# Altium integrated library ABC Integrated Library.IntLib: 3 symbols
Pins are listed as number, name and electrical type; pins without a type are passive.

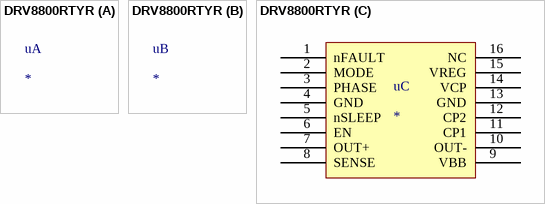
[diagram p0: symbol DRV8800RTYR]

## DRV8800RTYR
designator u
footprint DRV8800RTYR
part C pins: 1 nFAULT, 2 MODE, 3 PHASE, 4 GND, 5 nSLEEP, 6 EN, 7 OUT+ (power), 8 SENSE, 9 VBB (power), 10 OUT- (power), 11 CP1, 12 CP2, 13 GND, 14 VCP, 15 VREG, 16 NC


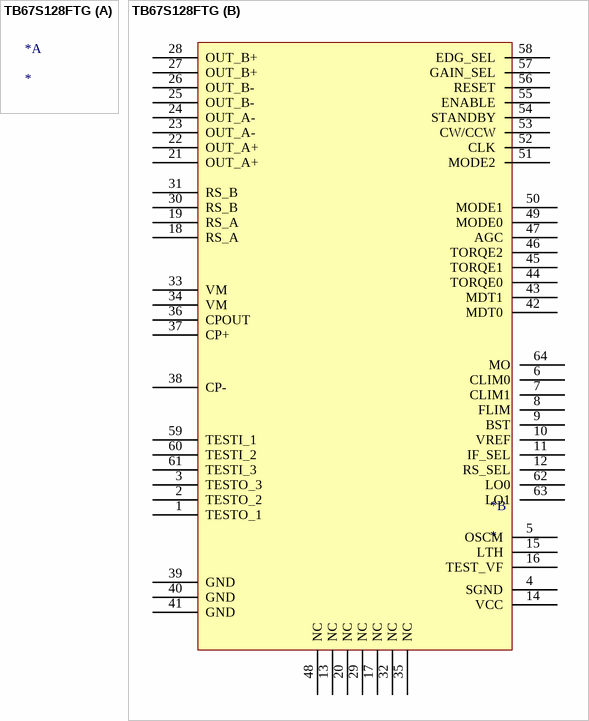
[diagram p1: symbol TB67S128FTG]

## TB67S128FTG
designator *
footprint TB67S128FTG FP
part B pins: 1 TESTO_1, 2 TESTO_2, 3 TESTO_3, 4 SGND, 5 OSCM, 6 CLIM0, 7 CLIM1, 8 FLIM, 9 BST, 10 VREF, 11 IF_SEL, 12 RS_SEL, 13 NC, 14 VCC, 15 LTH, 16 TEST_VF, 17 NC, 18 RS_A, 19 RS_A, 20 NC, 21 OUT_A+, 22 OUT_A+, 23 OUT_A-, 24 OUT_A-, 25 OUT_B-, 26 OUT_B-, 27 OUT_B+, 28 OUT_B+, 29 NC, 30 RS_B, 31 RS_B, 32 NC, 33 VM, 34 VM, 35 NC, 36 CPOUT, 37 CP+, 38 CP-, 39 GND, 40 GND, 41 GND, 42 MDT0, 43 MDT1, 44 TORQE0, 45 TORQE1, 46 TORQE2, 47 AGC, 48 NC, 49 MODE0, 50 MODE1, 51 MODE2, 52 CLK, 53 CW/CCW, 54 STANDBY, 55 ENABLE, 56 RESET, 57 GAIN_SEL, 58 EDG_SEL, 59 TESTI_1, 60 TESTI_2, 61 TESTI_3, 62 LO0, 63 LO1, 64 MO


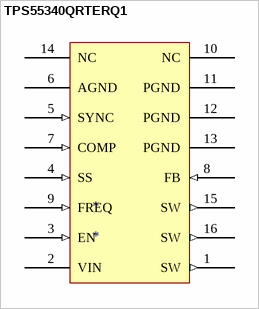
[diagram p2: symbol TPS55340QRTERQ1]

## TPS55340QRTERQ1
designator *
footprint TPS55340QRTERQ1 (Boost Switching Regulator IC Positive, Isolation Capable Adjustable 2.9V 1 Output 5.25A (Switch) 16-WFQFN Exposed Pad)
pins: 1 SW (out), 2 VIN (power), 3 EN (in), 4 SS (in), 5 SYNC (in), 6 AGND (power), 7 COMP (in), 8 FB (in), 9 FREQ (in), 10 NC, 11 PGND (power), 12 PGND (power), 13 PGND (power), 14 NC, 15 SW (out), 16 SW (out)